# EAGLE library part LMZM33606 (library EurorackModularParts)
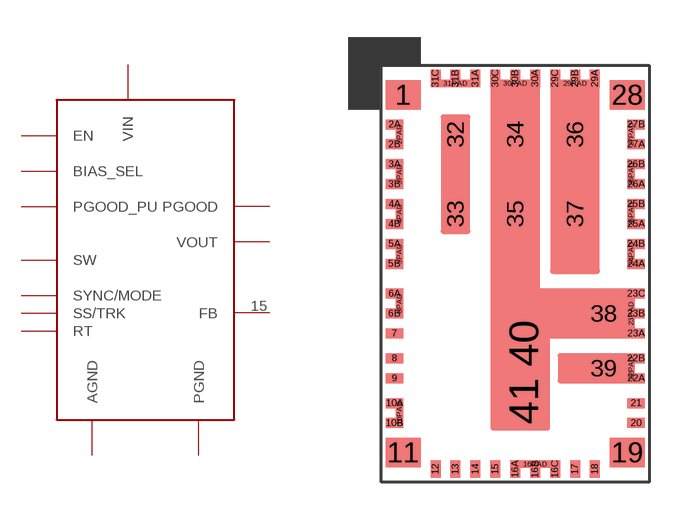
[diagram p30: symbol with the pads of LMZM33606; footprint LMZM33606]

Designator prefix -

## LMZM33606  [LMZM33606]
1  SW
2A  SW
2B  SW
2PAD  SW
3A  SW
3B  SW
3PAD  SW
4A  SW
4B  SW
4PAD  SW
5A  SW
5B  SW
5PAD  SW
6A  SW
6B  SW
6PAD  SW
8  PGND
10A  BIAS_SEL
10B  BIAS_SEL
10PAD  BIAS_SEL
11  PGND
12  RT
13  SS/TRK
15  FB
16A  AGND
16B  AGND
16C  AGND
16PAD  AGND
17  PGOOD
18  PGOOD_PU
19  SYNC/MODE
20  EN
21  AGND
22A  VIN
22B  VIN
22PAD  VIN
23A  PGND
23B  PGND
23C  PGND
23PAD  PGND
24A  VOUT
24B  VOUT
24PAD  VOUT
25A  VOUT
25B  VOUT
25PAD  VOUT
26A  VOUT
26B  VOUT
26PAD  VOUT
27A  VOUT
27B  VOUT
27PAD  VOUT
28  VOUT
29A  VOUT
29B  VOUT
29C  VOUT
29PAD  VOUT
30A  PGND
30B  PGND
30C  PGND
30PAD  PGND
31A  SW
31B  SW
31C  SW
31PAD  SW
32  SW
33  SW
34  PGND
35  PGND
36  VOUT
37  VOUT
38  PGND
39  VIN
40  PGND
41  PGND

## Footprint LMZM33606 (pad centres in mm)
smd 1.4 x 1.17: 1 -4.5,7.185; 11 -4.5,-7.185; 19 4.5,-7.185; 28 4.5,7.185
smd 0.7 x 0.4: 2A -4.85,6; 2B -4.85,5.2; 3A -4.85,4.4; 3B -4.85,3.6; 4A -4.85,2.8; 4B -4.85,2; 5A -4.85,1.2; 5B -4.85,0.4; 6A -4.85,-0.8; 6B -4.85,-1.6; 7 -4.85,-2.4; 8 -4.85,-3.4; 9 -4.85,-4.2; 10A -4.85,-5.2; 10B -4.85,-6; 20 4.85,-6; 21 4.85,-5.2; 22A 4.85,-4.2; 22B 4.85,-3.4; 23A 4.85,-2.4; 23B 4.85,-1.6; 23C 4.85,-0.8; 24A 4.85,0.4; 24B 4.85,1.2; 25A 4.85,2; 25B 4.85,2.8; 26A 4.85,3.6; 26B 4.85,4.4; 27A 4.85,5.2; 27B 4.85,6
smd 0.3 x 1.2: 2PAD -4.65,5.6; 3PAD -4.65,4; 4PAD -4.65,2.4; 5PAD -4.65,0.8; 6PAD -4.65,-1.2; 10PAD -4.65,-5.6; 22PAD 4.65,-3.8; 24PAD 4.65,0.8; 25PAD 4.65,2.4; 26PAD 4.65,4; 27PAD 4.65,5.6
smd 0.4 x 0.7: 12 -3.2,-7.85; 13 -2.4,-7.85; 14 -1.6,-7.85; 15 -0.8,-7.85; 16A 0,-7.85; 16B 0.8,-7.85; 16C 1.6,-7.85; 17 2.4,-7.85; 18 3.2,-7.85; 29A 3.2,7.85; 29B 2.4,7.85; 29C 1.6,7.85; 30A 0.8,7.85; 30B 0,7.85; 30C -0.8,7.85; 31A -1.6,7.85; 31B -2.4,7.85; 31C -3.2,7.85
smd 2 x 0.3: 16PAD 0.8,-7.65; 29PAD 2.4,7.65; 30PAD 0,7.65; 31PAD -2.4,7.65
smd 0.3 x 2: 23PAD 4.65,-1.6
smd 1 x 1.44: 32 -2.4,5.6; 33 -2.4,2.4; 34 0,5.6; 35 0,2.4; 36 2.4,5.6; 37 2.4,2.4
smd 1.1 x 1: 38 3.55,-1.6; 39 3.55,-3.8
smd 1.75 x 1.92: 40 0.335,-2.79; 41 0.335,-5.11